# Altium schematic symbol library LED Indication.SchLib: 8 symbols
Pins are listed as number, name and electrical type; pins without a type are passive.

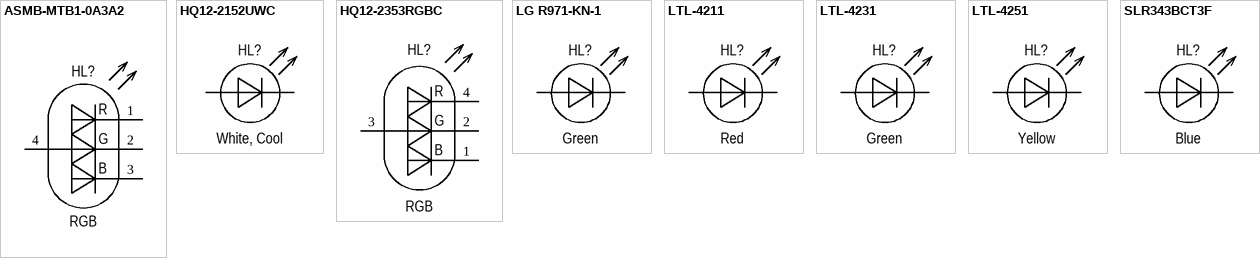
[diagram p0: symbols ASMB-MTB1-0A3A2 to SLR343BCT3F]

## ASMB-MTB1-0A3A2
designator HL?, comment RGB
LED RGB PLCC-4 CA; Manufacturer: Broadcom; Part name: ASMB-MTB1-0A3A2; Forward current: R 20mA, G 20mA, B 20mA; Wavelength: R 625nm, G 530nm, B 470nm; Forward voltage: R 2.1V, G 3.1V, B 3.1V; Component: LED Indication; Group: Discrete; Package: PLCC-4; Color: RGB; Operating temperature: -40°C +100°C; Mounting type: Surface mount; Dimension: 2.80mm x 3.20mm; Height: 1.90mm
footprint LEDRGBPLCC-4N (LED RGB Indication, Body 1.6x0.8mm)
pins: 1 RED, 2 GREEN, 3 BLUE, 4 CA
text: R; G; B

## HQ12-2152UWC
designator HL?, comment White, Cool
LED White 1206(3216) RA; Manufacturer: Harvatek; Part name: HQ12-2152UWC; Forward current: 20mA; Forward voltage: 3.1V; Component: LED Indication; Group: Discrete; Package: 1206 (3216) RA; Color: White, Cool; Operating temperature: -40°C +85°C; Mounting type: Surface mount, Right angle; Dimension: 3.20mm x 1.50mm; Height: 1.00mm
footprint LED3216RN (LED Indication, Body 3.2x1.6mm, Right Angle)
pins: A Anode, C Cathode

## HQ12-2353RGBC
designator HL?, comment RGB
LED RGB 1206(3216) RA CA; Manufacturer: Harvatek; Part name: HQ12-2353RGBC; Forward current: 25mA; Forward voltage: R 2.1V, G 2.7V, B 2.9V; Wavelength: R 625nm, G 528nm, B 470nm; Component: LED Indication; Group: Discrete; Package: 1206 (3216) RA; Color: RGB; Operating temperature: -30°C +85°C; Mounting type: Surface mount, Right angle; Dimension: 3.20mm x 1.40mm; Height: 1.00mm
footprint LEDRGB3216RN (LED RGB Indication, Body 3.2x1.6mm, Right Angle)
pins: 1 BLUE, 2 GREEN, 3 CA, 4 RED
text: R; G; B

## LG R971-KN-1
designator HL?, comment Green
LED Green 0805(2012); Manufacturer: OSRAM Opto Semiconductors; Part name: LG R971-KN-1; Forward current: 20mA; Forward voltage: 2.2V; Wavelength: 570nm; Component: LED Indication; Group: Discrete; Package: 0805 (2012); Color: Green; Operating temperature: -40°C +85°C; Mounting type: Surface mount; Dimension: 2.00mm x 1.25mm; Height: 0.90mm
footprint LED2012N (LED Indication, Body 2.0x1.2mm, Green color)
pins: A Anode, C Cathode

## LTL-4211
designator HL?, comment Red
LED Red TH D3mm; Manufacturer: Lite-On; Forward current: 10mA; Forward voltage: 2.1V; Wavelength: 657nm; Component: LED Indication; Group: Discrete; Package: T-1 (D3); Part name: LTL-4211; Color: Red; Operating temperature: -55°C +100°C; Mounting type: Through hole; Dimension: 4.00mm x 3.50mm; Height: 6.25mm
footprint LEDD3N (LED Indication, Body TH D3 4.0x3.5mm)
footprint LEDD3TBN (LED Indication, Body TH Throad board D3 4.0x3.5mm)
pins: A Anode, C Cathode

## LTL-4231
designator HL?, comment Green
LED Green TH D3mm; Manufacturer: Lite-On; Forward current: 10mA; Forward voltage: 2.1V; Wavelength: 569nm; Component: LED Indication; Group: Discrete; Package: T-1 (D3); Part name: LTL-4231; Color: Green; Operating temperature: -55°C +100°C; Mounting type: Through hole; Dimension: 4.00mm x 3.50mm; Height: 6.25mm
footprint LEDD3N (LED Indication, Body TH D3 4.0x3.5mm)
footprint LEDD3TBN (LED Indication, Body TH Throad board D3 4.0x3.5mm)
pins: A Anode, C Cathode

## LTL-4251
designator HL?, comment Yellow
LED Yellow TH D3mm; Manufacturer: Lite-On; Forward current: 10mA; Forward voltage: 2.1V; Wavelength: 588nm; Component: LED Indication; Group: Discrete; Package: T-1 (D3); Part name: LTL-4251; Color: Yellow; Operating temperature: -55°C +100°C; Mounting type: Through hole; Dimension: 4.00mm x 3.50mm; Height: 6.25mm
footprint LEDD3N (LED Indication, Body TH D3 4.0x3.5mm)
footprint LEDD3TBN (LED Indication, Body TH Throad board D3 4.0x3.5mm)
pins: A Anode, C Cathode

## SLR343BCT3F
designator HL?, comment Blue
LED Blue TH D3mm; Manufacturer: Lite-On; Part name: SLR343BCT3F; Forward current: 20mA; Forward voltage: 3.3V; Wavelength: 470nm; Component: LED Indication; Group: Discrete; Package: T-1 (D3); Color: Blue; Operating temperature: -55°C +100°C; Mounting type: Through hole; Dimension: 4.00mm x 3.50mm; Height: 6.25mm
footprint LEDD3N (LED Indication, Body TH D3 4.0x3.5mm)
footprint LEDD3TBN (LED Indication, Body TH Throad board D3 4.0x3.5mm)
pins: A Anode, C Cathode